# Altium schematic symbol library Data Receiver.SCHLIB: 24 symbols
Pins are listed as number, name and electrical type; pins without a type are passive.

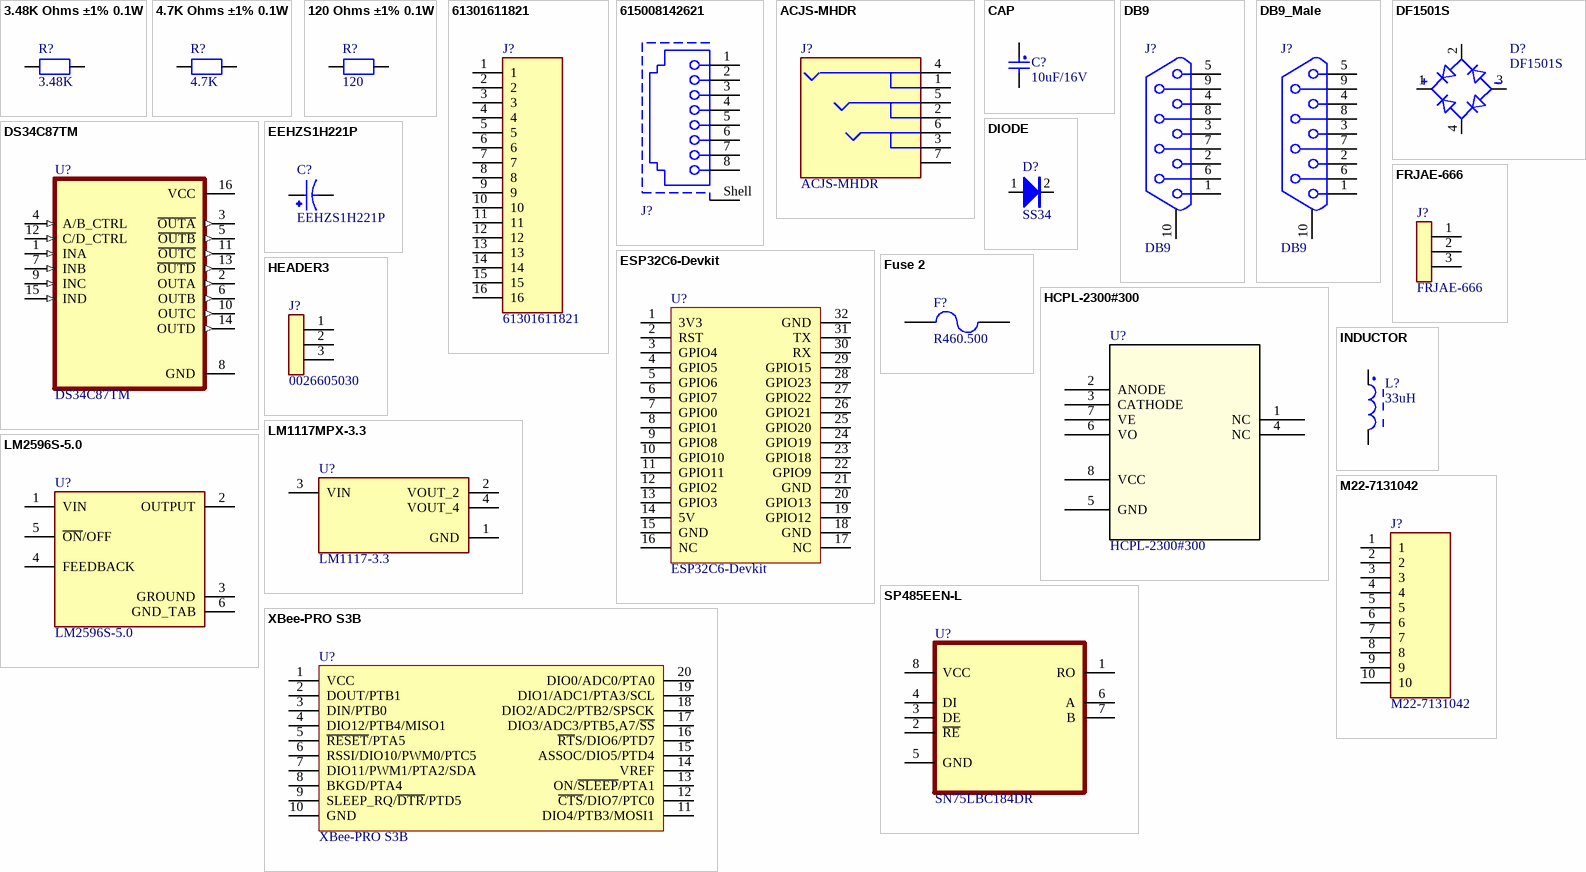
[diagram p0: symbols 3.48K Ohms ±1% 0.1W to XBee-PRO S3B]

## 3.48K Ohms ±1% 0.1W
designator R?, comment 3.48K
3.48 kOhms ±1% 0.1W, 1/10W Chip Resistor 0603 (1608 Metric) Moisture Resistant Thick Film; Manufacturer: Yageo; Manufacturer Part Number: RC0603FR-073K48L; Value: 3.48K; Supplier: Digi-key; Supplier Part Number: 311-3.48KHRTR-ND; Price: 0.1
footprint R0603 (Footprint not found)
pins: 1, 2

## 4.7K Ohms ±1% 0.1W
designator R?, comment 4.7K
4.7 kOhms ±1% 0.1W, 1/10W Chip Resistor 0603 (1608 Metric) Moisture Resistant Thick Film; Manufacturer: Yageo; Manufacturer Part Number: RC0603FR-074K7L; Value: 4.7K; Supplier: Digi-key; Supplier Part Number: 311-4.70KHRTR-ND; Price: 0.1
footprint R0603 (Footprint not found)
pins: 1, 2

## 120 Ohms ±1% 0.1W
designator R?, comment 120
120 Ohms ±1% 0.1W, 1/10W Chip Resistor 0603 (1608 Metric) Moisture Resistant Thick Film; Manufacturer: Yageo; Manufacturer Part Number: RC0603FR-07120RL; Value: 120; Supplier: Digi-key; Supplier Part Number: 311-120HRTR-ND; Price: 0.1
footprint R0603 (Footprint not found)
pins: 1, 2

## 61301611821
designator J?
16 Position Header Connector 0.100" (2.54mm) Through Hole Gold; Manufacturer: Wurth Elektronik; Geometry.Height: 8.65mm; Value: 1Row 16Pin; Supplier Part Number: 61301611821-ND; Supplier: Digi-key; Manufacturer Part Number: 61301611821; Price: 0.68
footprint 61301611821
pins: 1, 2, 3, 4, 5, 6, 7, 8, 9, 10, 11, 12, 13, 14, 15, 16

## 615008142621
designator J?  (value not drawn)
WR-MJ Modular Jack THT Horizontal Shielded Rear Grounding Post 8P8C Tab Down; Manufacturer: Wurth Elektronik; Contact Resistance: 20mΩ; Insulation Resistance: 500MΩ; LED: No; Number of Ports: 1; Rated Current: 1.5A; Shielding: Yes; Working Voltage: 120VAC; Withstanding Voltage: 1000VAC; ComponentLink1Description: Website Link; ComponentLink1URL: https://www.we-online.com/redexpert/article/615008142621?ad; ComponentLink2Description: Datasheet Link; ComponentLink2URL: https://www.we-online.com/redexpert/spec/615008142621?ad; Manufacturer Part Number: 615008142621; Category: Input/Output Connectors; Match Code: WR-MJ; Mount: Through Hole; Operating Temperature Max: 85°C; Operating Temperature Min: -40°C; Packaging: Tray; Number of Pins: 8P8C; Orientation: Horizontal; Supplier: Digi-key; Supplier Part Number: 732-3163-ND; Price: 2.7; Value: 615008142621
footprint 615008142621
pins: 1, 2, 3, 4, 5, 6, 7, 8, Shell

## ACJS-MHDR
designator J?
Phone Connectors 1/4" STEREO SWITCHED REAN; Manufacturer: Amphenol Audio; Price: 1.68; Value: ACJS-MHDR; Manufacturer Part Number: ACJS-MHDR; Supplier: Digi-key; Supplier Part Number: 889-1817-ND
footprint ACJSMHDR
pins: 1, 2, 3, 4, 5, 6, 7

## CAP
designator C?, comment 10uF/16V
Capacitor; Manufacturer: Samsung Electro-Mechanics; Manufacturer Part Number: CL10B104KO8NNNC; Value: 16V/0.1uF; Package: 0603; Supplier Part Number: 1276-1005-1-ND; Supplier: Digi-key
footprint CAP-0603
footprint CAP-0603 (Footprint not found)
footprint CAP-0603
footprint CAP-0603
footprint CAP-0805 (Footprint not found)
pins: 1, 2

## DB9
designator J?
9 Position D-Sub Receptacle, Female Sockets Connector; Manufacturer: Würth Elektronik; Manufacturer Part Number: 618009231321; Value: 618009231321; Supplier: Digi-key; Supplier Part Number: 732-618009231321-ND; Price: 3.57
footprint DB9/S_A (9针母头串口,31*18.5*12.5mm)
footprint DB9FLW
pins: 1, 2, 3, 4, 5, 6, 7, 8, 9, 10

## DB9_Male
designator J?, comment DB9
9 Position D-Sub Receptacle, Male Sockets Connector; Manufacturer: Würth Elektronik; Manufacturer Part Number: 618009231321; Value: 618009231321; Supplier: Digi-key; Supplier Part Number: 732-618009231321-ND; Price: 3.57
footprint DB9FLW
footprint DB9/F_A (9ÕëÄ¸Í·´®¿Ú,31*18.5*12.5mm)
pins: 1, 2, 3, 4, 5, 6, 7, 8, 9, 10

## DF1501S
designator D?
Bridge Rectifier Single Phase Standard 100V Surface Mount DFS; Manufacturer: Diodes Incorporated; Price: 0.87; Value: DF1501S; Manufacturer Part Number: DF1501S; Supplier: Digi-key; Supplier Part Number: DF1501SDI-ND
footprint SOT520P1040X293-4N (SOT143, 4-Leads, Body 8.51x10.40mm, Pitch 5.20mm, IPC Medium Density)
pins: 1 POS, 2 AC1, 3 NEG, 4 AC2

## DIODE
designator D?, comment SS34
Diode 40 V 3A Surface Mount SMA; Manufacturer: Taiwan Semiconductor; Value: SS34; Supplier Part Number: SS34FSTR-ND; Price: 0.56; Manufacturer Part Number: SS34; Supplier: Digi-key
footprint SOT-23
footprint SOD-123
footprint SMA
pins: 1, 2

## DS34C87TM
designator U?
4/0 Driver RS422, RS485 16-SOIC; Manufacturer: Texas Instruments; Value: DS34C87TM/NOPB; Price: 1.93; Supplier Part Number: DS34C87TM/NOPB-ND; Manufacturer Part Number: DS34C87TM/NOPB; Supplier: Digi-key
footprint SOIC127P600X175-16N
pins: 1 INA (in), 2 OUTA (out), 3 ~{OUTA} (out), 4 A/B_CTRL (in), 5 ~{OUTB} (out), 6 OUTB (out), 7 INB (in), 8 GND (power), 9 INC (in), 10 OUTC (out), 11 ~{OUTC} (out), 12 C/D_CTRL (in), 13 ~{OUTD} (out), 14 OUTD (out), 15 IND (in), 16 VCC (power)

## EEHZS1H221P
designator C?
Aluminium Organic Polymer Capacitors 50VDC 220uF 125degC Hybrid Cap AEC-Q200; Manufacturer: Panasonic; Value: EEH-ZS1H221P; Price: 2.36; Supplier: Digi-key; Manufacturer Part Number: EEH-ZS1H221P; Supplier Part Number: P124104TR-ND
footprint CAP_EEHZS1H221P
pins: 1, 2

## ESP32C6-Devkit
designator U?
ESP32-C6-MINI-1 Transceiver; Bluetooth® 5 2.4GHz Evaluation Board; Manufacturer: Espressif Systems; Manufacturer Part Number: ESP32-C6-DevKitM-1-N4; Value: No FIT; Supplier Part Number: 1965-ESP32-C6-DEVKITM-1-N4-ND; Supplier: Digi-key; Price: 8
footprint ESP32-C6-Devkit (Footprint not found)
pins: 1 3V3, 2 RST, 3 GPIO4, 4 GPIO5, 5 GPIO6, 6 GPIO7, 7 GPIO0, 8 GPIO1, 9 GPIO8, 10 GPIO10, 11 GPIO11, 12 GPIO2, 13 GPIO3, 14 5V, 15 GND, 16 NC, 17 NC, 18 GND, 19 GPIO12, 20 GPIO13, 21 GND, 22 GPIO9, 23 GPIO18, 24 GPIO19, 25 GPIO20, 26 GPIO21, 27 GPIO22, 28 GPIO23, 29 GPIO15, 30 RX, 31 TX, 32 GND

## FRJAE-666
designator J?
CONN MOD JACK 6P6C R/A SHEILDED; Manufacturer: Amphenol; Manufacturer Part Number: FRJAE-666; Supplier: Digi-key; Supplier Part Number: FRJAE666-ND; Price: 2.8; Value: FRJAE-666
footprint FRJAE-666 (Footprint not found)
pins: 1, 2, 3

## Fuse 2
designator F?, comment R460.500
500 mA 125 V AC 125 V DC Fuse Board Mount (Cartridge Style Excluded) Surface Mount 2-SMD, J-Lead; Manufacturer: Littelfuse Inc.; Manufacturer Part Number: 0460.500ER; Supplier: Digi-key; Supplier Part Number: 0460.500ER-ND; Price: 1.3; Value: 500 mA 125 V AC 125 V DC
footprint CAPM7243X30N (Molded Capacitor, 2-Leads, Body 7.24x4.32mm, IPC Medium Density)
simulation model FUSE (Spice Subcircuit)
pins: 1, 2

## HCPL-2300#300
designator U?
Logic Output Optoisolator 5MBd Open Collector, Schottky Clamped 3750Vrms 1 Channel 100V/µs CMTI 8-DIP Gull Wing; Manufacturer: Broadcom Limited; Manufacturer Part Number: HCPL-2300#300; Supplier: Digi-key; Supplier Part Number: 516-1069-5-ND; Price: 5; Value: HCPL-2300#300
footprint SOP254P960X420-8N (SOP, 8-Leads, Body 9.65x6.35mm, Pitch 2.54mm, IPC Medium Density)
pins: 1 NC, 2 ANODE, 3 CATHODE, 4 NC, 5 GND (power), 6 VO, 7 VE, 8 VCC (power)

## HEADER3
designator J?, comment 0026605030
Connector Header Through Hole, Right Angle 3 position 0.156" (3.96mm); Manufacturer: Molex; Value: 3pin connector; Manufacturer Part Number: 0026605030; Supplier: Digi-key; Supplier Part Number: WM4641-ND; Price: 0.45
footprint 0026605030
pins: 1, 2, 3

## INDUCTOR
designator L?, comment 33uH
33 µH Shielded Drum Core, Wirewound Inductor 3.5 A 57mOhm Max Nonstandard; Manufacturer: Bourns Inc.; Manufacturer Part Number: SRR1280-330M; Value: 33uH, 3.5A; Supplier Part Number: SRR1280-330MCT-ND; Price: 1.18; Supplier: Digi-key
footprint 0805
footprint IND_0805
footprint RDSR0504
footprint IND_BOURNS_SRR12
pins: 1, 2

## LM1117MPX-3.3
designator U?, comment LM1117-3.3
800-mA 15-V linear voltage regulator 4-SOT-223 0 to 125; Manufacturer: National Semiconductor; Value: LM1117MPX-3.3; Price: 2; Manufacturer Part Number: LM1117MPX-3.3; Supplier: Digi-key; Supplier Part Number: 2156-LM1117MPX-3.3-14-ND
footprint VREG_LM1117MPX-3.3
pins: 1 GND, 2 VOUT_2, 3 VIN, 4 VOUT_4

## LM2596S-5.0
designator U?
IC REG BUCK 5V 3A TO263-5; Manufacturer: Texas Instruments; Price: 9; Value: LM2596S-5.0; Manufacturer Part Number: LM2596S-5.0; Supplier: Digi-key; Supplier Part Number: LM2596S-5.0-ND
footprint TO170P1524X483-6N
pins: 1 VIN, 2 OUTPUT, 3 GROUND, 4 FEEDBACK, 5 ~{ON}/OFF, 6 GND_TAB

## M22-7131042
designator J?
2.00mm (0.079") Pitch SIL Vertical 2.6mm Throughboard Socket Assembly, selective gold + tin, 10 contacts; Manufacturer: Harwin; Geometry.Height: 4.4mm; Supplier Part Number: 952-1354-5-ND; Supplier: Digi-key; Manufacturer Part Number: M22-7131042; Price: 1.9; Value: M22-7131042
footprint M22-7131042
pins: 1, 2, 3, 4, 5, 6, 7, 8, 9, 10

## SP485EEN-L
designator U?, comment SN75LBC184DR
Enhanced Low Power Half-Duplex RS-485 Transceivers; Manufacturer: MaxLinear, Inc.; Value: SP485EEN-L; Price: 1; Manufacturer Part Number: SP485EEN-L; Supplier: Digi-key; Supplier Part Number: 1016-1171-5-ND
footprint SOIC127P620X175-8N (SOIC, 8-Leads, Body 5.00x3.98mm, Pitch 1.27mm, IPC Medium Density)
pins: 1 RO, 2 ~{RE}, 3 DE, 4 DI, 5 GND, 6 A, 7 B, 8 VCC

## XBee-PRO S3B
designator U?
General ISM < 1GHz Transceiver Module 920MHz Antenna Not Included, RP-SMA Through Hole; Manufacturer: DIGI; Manufacturer Part Number: XBP9B-XCST-022; Value: No-FIT; Supplier Part Number: 602-1353-ND; Supplier: Digi-key; Price: 58.5
footprint XBEE(MMS-110-02-L-SV-K-TR)
pins: 1 VCC, 2 DOUT/PTB1, 3 DIN/PTB0, 4 DIO12/PTB4/MISO1, 5 ~{RESET}/PTA5, 6 RSSI/DIO10/PWM0/PTC5, 7 DIO11/PWM1/PTA2/SDA, 8 BKGD/PTA4, 9 SLEEP_RQ/~{DTR}/PTD5, 10 GND, 11 DIO4/PTB3/MOSI1, 12 ~{CTS}/DIO7/PTC0, 13 ON/~{SLEEP}/PTA1, 14 VREF, 15 ASSOC/DIO5/PTD4, 16 ~{RT}S/DIO6/PTD7, 17 DIO3/ADC3/PTB5,A7/~{SS}, 18 DIO2/ADC2/PTB2/SPSCK, 19 DIO1/ADC1/PTA3/SCL, 20 DIO0/ADC0/PTA0